# EAGLE library part BEAGLE_EXPANSION (library veter)
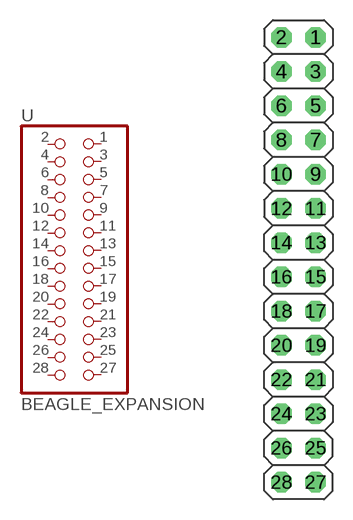
[diagram p5: symbol with the pads of BEAGLE_PINH2X14; footprint BEAGLE_PINH2X14]

Designator prefix -

## BEAGLE_EXPANSION  [BEAGLE_PINH2X14]
1  1  pas
2  2  pas
3  3  pas
4  4  pas
5  5  pas
6  6  pas
7  7  pas
8  8  pas
9  9  pas
10  10  pas
11  11  pas
12  12  pas
13  13  pas
14  14  pas
15  15  pas
16  16  pas
17  17  pas
18  18  pas
19  19  pas
20  20  pas
21  21  pas
22  22  pas
23  23  pas
24  24  pas
25  25  pas
26  26  pas
27  27  pas
28  28  pas

## Footprint BEAGLE_PINH2X14 (pad centres in mm)
Beagle expansion P9
drill 1.016 octagon: 1 1.27,16.51; 2 -1.27,16.51; 3 1.27,13.97; 4 -1.27,13.97; 5 1.27,11.43; 6 -1.27,11.43; 7 1.27,8.89; 8 -1.27,8.89; 9 1.27,6.35; 10 -1.27,6.35; 11 1.27,3.81; 12 -1.27,3.81; 13 1.27,1.27; 14 -1.27,1.27; 15 1.27,-1.27; 16 -1.27,-1.27; 17 1.27,-3.81; 18 -1.27,-3.81; 19 1.27,-6.35; 20 -1.27,-6.35; 21 1.27,-8.89; 22 -1.27,-8.89; 23 1.27,-11.43; 24 -1.27,-11.43; 25 1.27,-13.97; 26 -1.27,-13.97; 27 1.27,-16.51; 28 -1.27,-16.51